# EAGLE library part SAINSMART_MEGA (library Sain Smart MEGA)
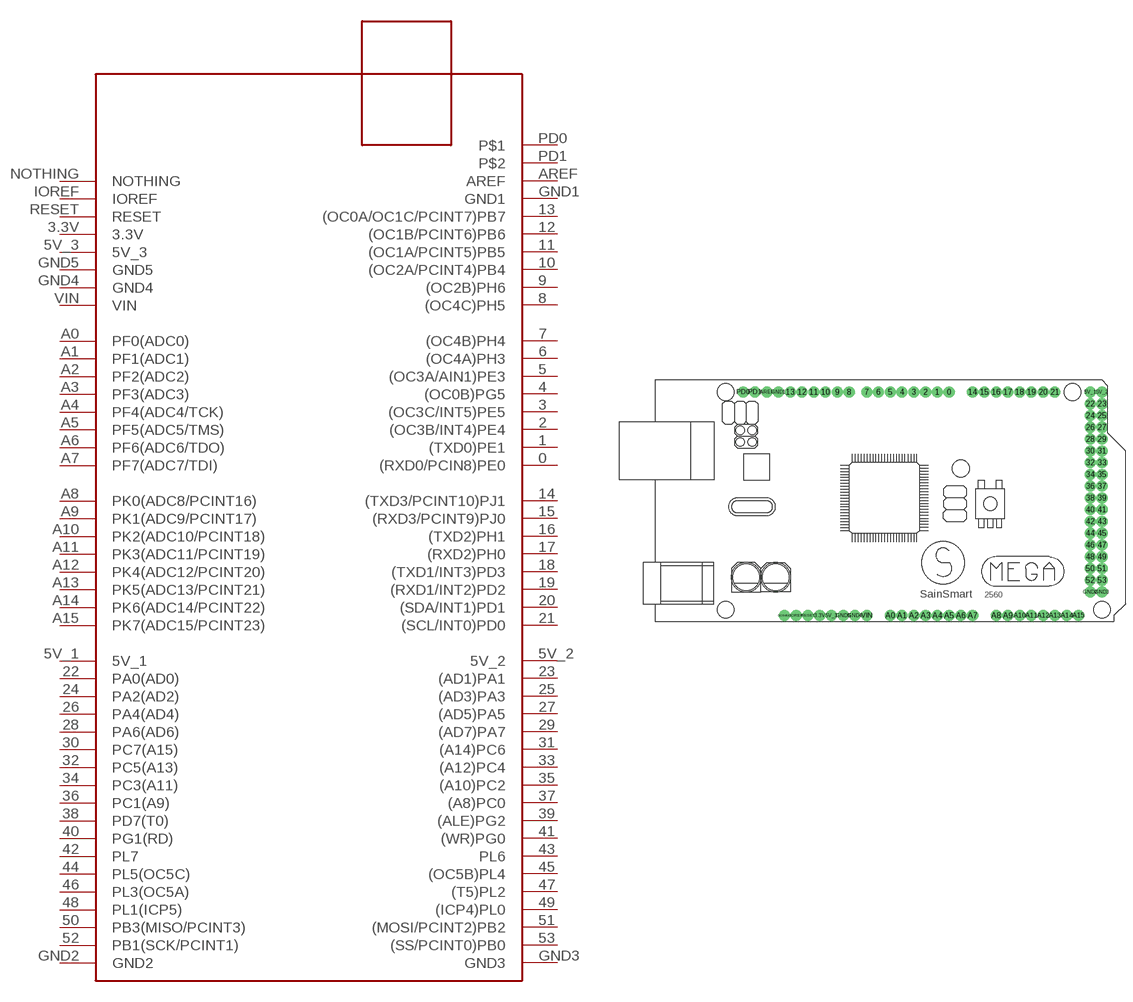
[diagram p0: symbol with the pads of SAINSMART_MEGA; footprint SAINSMART_MEGA]

Designator prefix -

## SAINSMART_MEGA  [SAINSMART_MEGA]
0  (RXD0/PCIN8)PE0
1  (TXD0)PE1
2  (OC3B/INT4)PE4
3  (OC3C/INT5)PE5
3.3V  3.3V
4  (OC0B)PG5
5  (OC3A/AIN1)PE3
5V_1  5V_1
5V_2  5V_2
5V_3  5V_3
6  (OC4A)PH3
7  (OC4B)PH4
8  (OC4C)PH5
9  (OC2B)PH6
10  (OC2A/PCINT4)PB4
11  (OC1A/PCINT5)PB5
12  (OC1B/PCINT6)PB6
13  (OC0A/OC1C/PCINT7)PB7
14  (TXD3/PCINT10)PJ1
15  (RXD3/PCINT9)PJ0
16  (TXD2)PH1
17  (RXD2)PH0
18  (TXD1/INT3)PD3
19  (RXD1/INT2)PD2
20  (SDA/INT1)PD1
21  (SCL/INT0)PD0
22  PA0(AD0)
23  (AD1)PA1
24  PA2(AD2)
25  (AD3)PA3
26  PA4(AD4)
27  (AD5)PA5
28  PA6(AD6)
29  (AD7)PA7
30  PC7(A15)
31  (A14)PC6
32  PC5(A13)
33  (A12)PC4
34  PC3(A11)
35  (A10)PC2
36  PC1(A9)
37  (A8)PC0
38  PD7(T0)
39  (ALE)PG2
40  PG1(RD)
41  (WR)PG0
42  PL7
43  PL6
44  PL5(OC5C)
45  (OC5B)PL4
46  PL3(OC5A)
47  (T5)PL2
48  PL1(ICP5)
49  (ICP4)PL0
50  PB3(MISO/PCINT3)
51  (MOSI/PCINT2)PB2
52  PB1(SCK/PCINT1)
53  (SS/PCINT0)PB0
A0  PF0(ADC0)
A1  PF1(ADC1)
A2  PF2(ADC2)
A3  PF3(ADC3)
A4  PF4(ADC4/TCK)
A5  PF5(ADC5/TMS)
A6  PF6(ADC6/TDO)
A7  PF7(ADC7/TDI)
A8  PK0(ADC8/PCINT16)
A9  PK1(ADC9/PCINT17)
A10  PK2(ADC10/PCINT18)
A11  PK3(ADC11/PCINT19)
A12  PK4(ADC12/PCINT20)
A13  PK5(ADC13/PCINT21)
A14  PK6(ADC14/PCINT22)
A15  PK7(ADC15/PCINT23)
AREF  AREF
GND1  GND1
GND2  GND2
GND3  GND3
GND4  GND4
GND5  GND5
IOREF  IOREF
NOTHING  NOTHING
PD0  P$1
PD1  P$2
RESET  RESET
VIN  VIN

## Footprint SAINSMART_MEGA (pad centres in mm)
drill 1.6 pad 2.184 round: 0 13.97,22.86; 1 11.43,22.86; 2 8.89,22.86; 3 6.35,22.86; 3.3V -13.97,-25.4; 4 3.81,22.86; 5 1.27,22.86; 5V_1 44.45,22.86; 5V_2 46.99,22.86; 5V_3 -11.43,-25.4; 6 -1.27,22.86; 7 -3.81,22.86; 8 -7.62,22.86; 9 -10.16,22.86; 10 -12.7,22.86; 11 -15.24,22.86; 12 -17.78,22.86; 13 -20.32,22.86; 14 19.05,22.86; 15 21.59,22.86; 16 24.13,22.86; 17 26.67,22.86; 18 29.21,22.86; 19 31.75,22.86; 20 34.29,22.86; 21 36.83,22.86; 22 44.45,20.32; 23 46.99,20.32; 24 44.45,17.78; 25 46.99,17.78; 26 44.45,15.24; 27 46.99,15.24; 28 44.45,12.7; 29 46.99,12.7; 30 44.45,10.16; 31 46.99,10.16; 32 44.45,7.62; 33 46.99,7.62; 34 44.45,5.08; 35 46.99,5.08; 36 44.45,2.54; 37 46.99,2.54; 38 44.45,0; 39 46.99,0; 40 44.45,-2.54; 41 46.99,-2.54; 42 44.45,-5.08; 43 46.99,-5.08; 44 44.45,-7.62; 45 46.99,-7.62; 46 44.45,-10.16; 47 46.99,-10.16; 48 44.45,-12.7; 49 46.99,-12.7; 50 44.45,-15.24; 51 46.99,-15.24; 52 44.45,-17.78; 53 46.99,-17.78; A0 1.27,-25.4; A1 3.81,-25.4; A2 6.35,-25.4; A3 8.89,-25.4; A4 11.43,-25.4; A5 13.97,-25.4; A6 16.51,-25.4; A7 19.05,-25.4; A8 24.13,-25.4; A9 26.67,-25.4; A10 29.21,-25.4; A11 31.75,-25.4; A12 34.29,-25.4; A13 36.83,-25.4; A14 39.37,-25.4; A15 41.91,-25.4; AREF -25.4,22.86; GND1 -22.86,22.86; GND2 44.45,-20.32; GND3 46.99,-20.32; GND4 -6.35,-25.4; GND5 -8.89,-25.4; IOREF -19.05,-25.4; NOTHING -21.59,-25.4; PD0 -30.48,22.86; PD1 -27.94,22.86; RESET -16.51,-25.4; VIN -3.81,-25.4